# Altium footprint library MQ-135.PcbLib: 1 footprints
Each footprint in its own frame and in the unit in brackets; x right, y up, seen from the top. Pads: shape width x height; smd on the part's side, far side on the other; paste and mask are expansions set on the pad; w line width, h text height; cw(c..) or ccw(c..) is an arc to the next point about the centre after c.
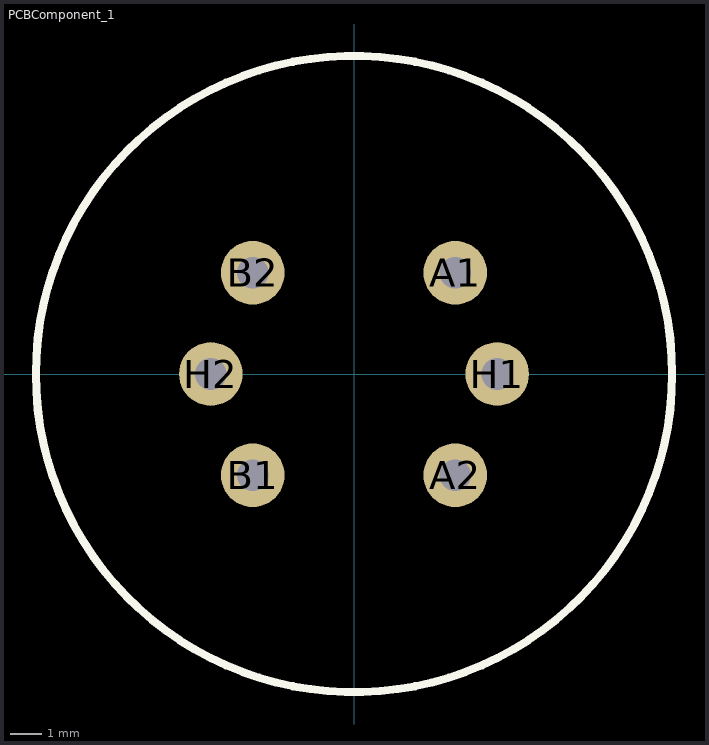
[diagram p0: the footprint, top view; thin cyan lines are the x and y axes]

## PCBComponent_1 [mm]
pads (6):
  round 2 hole 1: A1(3.182,3.182) A2(3.182,-3.182) B1(-3.182,-3.182) B2(-3.182,3.182) H1(4.5,0) H2(-4.5,0)
Top Overlay:
  circle w0.254: c0,0 r10
3D body "User Library-MQ135.STEP": height 14, standoff -7.5, extent -9.75,-9.75 9.75,9.75